# Altium integrated library Switch.IntLib: 1 symbol
Pins are listed as number, name and electrical type; pins without a type are passive.

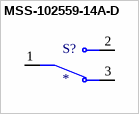
[diagram p0: symbol MSS-102559-14A-D]

## MSS-102559-14A-D
designator S?
10 x 2.5 x 5.9 mm, 1.4 mm Raised Slide Actuator, Through Hole, Miniature Slide Switch; MF: Same Sky; MP: MSS-102559-14A-D; SnapEDA_Link: https://www.snapeda.com/parts/MSS-102559-14A-D/Same+Sky/view-part/?ref=snap; Package: None; Value: *; Check_prices: https://www.snapeda.com/parts/MSS-102559-14A-D/Same+Sky/view-part/?ref=eda
footprint SW_MSS-102559-14A-D
pins: 1, 2, 3